# Altium integrated library ON Semi Schottky Diodes & Schottky Rectifiers.IntLib: 755 symbols (part 13 of 17)
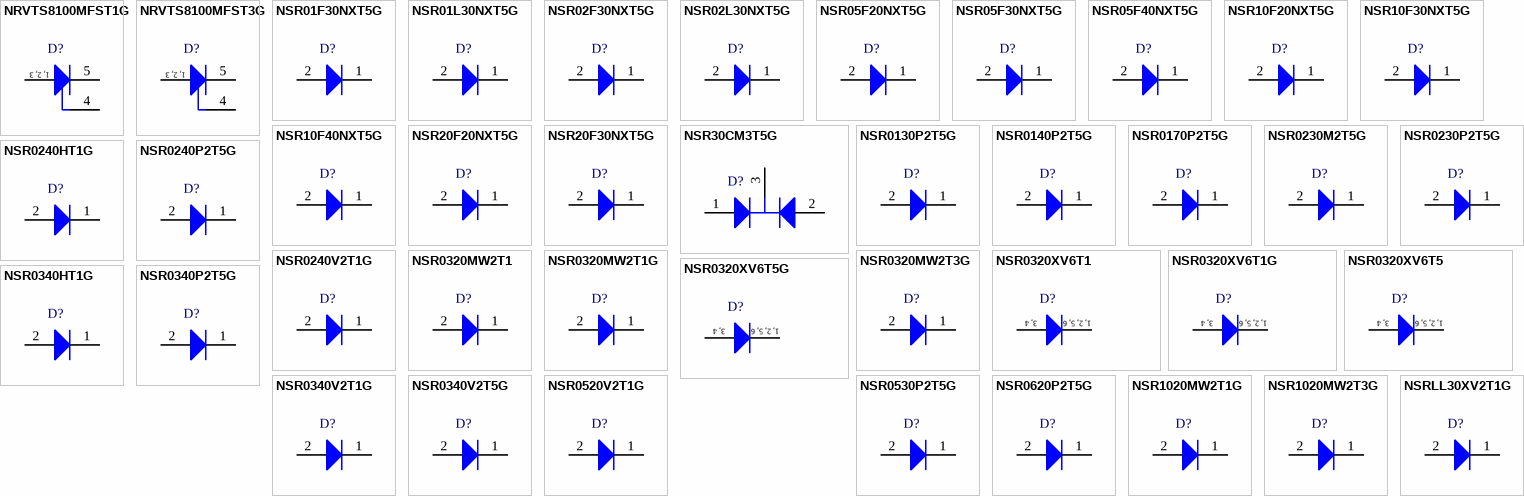
[diagram p31: symbols NRVTS8100MFST1G to NSRLL30XV2T1G]

## NSR30CM3T5G
designator D?
Dual Common Cathode Schottky Barrier Diodes, 3-Pin SOT-723, Pb-Free, Tape and Reel; Manufacturer: On Semiconductor; PartNumber: NSR30CM3T5G; IFSM Max (A): 0.6; trr Max (ns): 5; DatasheetVersion: Rev. 3; PackageVersion: Rev. C, 08/2006; PackageReference: SOT-723-3-631AA-01_C; PackageDescription: 3-Pin SOT223, Body 0.8 x 1.2 mm, Pitch 0.4 mm; Supplier 1: Digi-Key; Supplier Part Number 1: NSR30CM3T5GOSTR-ND; Supplier 2: Digi-Key; Supplier Part Number 2: NSR30CM3T5GOSCT-ND; Supplier 3: Digi-Key; Supplier Part Number 3: NSR30CM3T5GOSDKR-ND; Supplier 4: Farnell; Supplier Part Number 4: 1908089; Supplier 5: Newark; Supplier Part Number 5: 09R9613; Supplier 6: Mouser; Supplier Part Number 6: 863-NSR30CM3T5G; Configuration: Common Cathode; Packing: Tape and Reel; RoHS: TRUE; Mounting Technology: Surface Mount; ComponentLink1Description: Manufacturer URL; ComponentLink1URL: http://www.onsemi.com/; ComponentLink2Description: Datasheet; ComponentLink2URL: http://www.onsemi.cn/pub_link/Collateral/NSR30CM3T5G-D.PDF; ComponentLink3Description: Package Specification; ComponentLink3URL: http://www.onsemi.cn/pub_link/Collateral/BAT54M3-D.PDF
footprint ONSC-SOT-723-3-631AA-01_C_V (SOT23, 3-Leads, Body 1.25x0.85mm, Pitch 0.4mm)
pins: 1 A1, 2 A2, 3 K

## NSR0130P2T5G
designator D?
Schottky Barrier Diode, 2-Pin SOD-923, Pb-Free, Tape and Reel; Manufacturer: On Semiconductor; PartNumber: NSR0130P2T5G; Configuration: Single; IFSM Max (A): 1; DatasheetVersion: Rev. 1; PackageVersion: Rev. B, 04/2006; PackageReference: SOD-923-2-514AA-01_B; PackageDescription: 2-Pin SOD, Body 0.8 x 0.6 mm; Supplier 1: Digi-Key; Supplier Part Number 1: NSR0130P2T5GOSTR-ND; Supplier 2: Digi-Key; Supplier Part Number 2: NSR0130P2T5GOSCT-ND; Supplier 3: Digi-Key; Supplier Part Number 3: NSR0130P2T5GOSDKR-ND; Supplier 4: Farnell; Supplier Part Number 4: 1453608RL; Supplier 5: Newark; Supplier Part Number 5: 09R9612; Supplier 6: Mouser; Supplier Part Number 6: 863-NSR0130P2T5G; Packing: Tape and Reel; RoHS: TRUE; Mounting Technology: Surface Mount; ComponentLink1Description: Manufacturer URL; ComponentLink1URL: http://www.onsemi.com/; ComponentLink2Description: Datasheet; ComponentLink2URL: http://www.onsemi.cn/pub_link/Collateral/NSR0130P2-D.PDF; ComponentLink3Description: Package Specification; ComponentLink3URL: http://www.onsemi.cn/pub_link/Collateral/NSR0130P2-D.PDF
footprint ONSC-SOD-923-2-514AA-01_B_V (SOD, 2-Leads, Body 0.8x0.6mm)
pins: 1 K, 2 A

## NSR0140P2T5G
designator D?
Schottky Barrier Diode, 2-Pin SOD-923, Pb-Free, Tape and Reel; Manufacturer: On Semiconductor; PartNumber: NSR0140P2T5G; Configuration: Single; IFSM Max (A): 0.5; DatasheetVersion: Rev. O; PackageVersion: Rev. D, 03/2007; PackageReference: SOD-923-2-514AA-01_D; PackageDescription: 2-Pin SOD, Body 0.8 x 0.6 mm; Supplier 1: Digi-Key; Supplier Part Number 1: NSR0140P2T5GOSTR-ND; Supplier 2: Digi-Key; Supplier Part Number 2: NSR0140P2T5GOSCT-ND; Supplier 3: Digi-Key; Supplier Part Number 3: NSR0140P2T5GOSDKR-ND; Supplier 4: Farnell; Supplier Part Number 4: 1453611RL; Supplier 5: Farnell; Supplier Part Number 5: 1453611; Supplier 6: Farnell; Supplier Part Number 6: 2369153; Supplier 7: Newark; Supplier Part Number 7: 27M2677; Supplier 8: Newark; Supplier Part Number 8: 10N9704; Supplier 9: Mouser; Supplier Part Number 9: 863-NSR0140P2T5G; Packing: Tape and Reel; RoHS: TRUE; Mounting Technology: Surface Mount; ComponentLink1Description: Manufacturer URL; ComponentLink1URL: http://www.onsemi.com/; ComponentLink2Description: Datasheet; ComponentLink2URL: http://www.onsemi.cn/pub_link/Collateral/NSR0140P2-D.PDF; ComponentLink3Description: Package Specification; ComponentLink3URL: http://www.onsemi.cn/pub_link/Collateral/NSR0140P2-D.PDF
footprint ONSC-SOD-923-2-514AA-01_D_V (SOD, 2-Leads, Body 0.8x0.6mm)
pins: 1 K, 2 A

## NSR0170P2T5G
designator D?
Schottky Barrier Diode, 2-Pin SOD-923, Pb-Free, Tape and Reel; Manufacturer: On Semiconductor; PartNumber: NSR0170P2T5G; Configuration: Single; DatasheetVersion: Rev. 0; PackageVersion: Rev. B; PackageReference: SOD-923-2-514AB-01_B; PackageDescription: 2-Pin SOD, Body 0.8 x 0.6 mm; Supplier 1: Digi-Key; Supplier Part Number 1: NSR0170P2T5GOSTR-ND; Supplier 2: Digi-Key; Supplier Part Number 2: NSR0170P2T5GOSCT-ND; Supplier 3: Digi-Key; Supplier Part Number 3: NSR0170P2T5GOSDKR-ND; Supplier 4: Newark; Supplier Part Number 4: 01P5102; Supplier 5: Mouser; Supplier Part Number 5: 863-NSR0170P2T5G; Packing: Tape and Reel; RoHS: TRUE; Mounting Technology: Surface Mount; ComponentLink1Description: Manufacturer URL; ComponentLink1URL: http://www.onsemi.com/; ComponentLink2Description: Datasheet; ComponentLink2URL: http://www.onsemi.cn/pub_link/Collateral/NSR0170P2-D.PDF; ComponentLink3Description: Package Specification; ComponentLink3URL: http://www.onsemi.cn/pub_link/Collateral/NSR0170P2-D.PDF
footprint ONSC-SOD-923-2-514AB-01_B_V (SOD, 2-Leads, Body 0.8x0.6mm)
pins: 1 K, 2 A

## NSR0230M2T5G
designator D?
Schottky Barrier Diode, 2-Pin SOD-723, Pb-Free, Tape and Reel; Manufacturer: On Semiconductor; PartNumber: NSR0230M2T5G; Configuration: Single; IFSM Max (A): 1; DatasheetVersion: Rev. 3; PackageVersion: Rev. O, 03/2005; PackageReference: SOD-723-2-509AA-01; PackageDescription: 2-Pin SOD, Body 1 x 0.6 mm; Supplier 1: Digi-Key; Supplier Part Number 1: NSR0230M2T5G-ND; Supplier 2: Newark; Supplier Part Number 2: 02M9899; Supplier 3: Mouser; Supplier Part Number 3: 863-NSR0230M2T5G; Packing: Tape and Reel; RoHS: TRUE; Mounting Technology: Surface Mount; ComponentLink1Description: Manufacturer URL; ComponentLink1URL: http://www.onsemi.com/; ComponentLink2Description: Datasheet; ComponentLink2URL: http://www.onsemi.cn/pub_link/Collateral/NSR0230-D.PDF; ComponentLink3Description: Package Specification; ComponentLink3URL: http://www.onsemi.com/pub_link/Collateral/509AA.PDF
footprint ONSC-SOD-723-2-509AA-01_V (SOD, 2-Leads, Body 1x0.6mm)
pins: 1 K, 2 A

## NSR0230P2T5G
designator D?
Schottky Barrier Diode, 2-Pin SOD-923, Pb-Free, Tape and Reel; Manufacturer: On Semiconductor; PartNumber: NSR0230P2T5G; Configuration: Single; IFSM Max (A): 1; DatasheetVersion: Rev. 2; PackageVersion: Rev. E, 03/2011; PackageReference: SOD-923-2-514AA-01; PackageDescription: 2-Pin SOD, Body 0.8 x 0.6 mm; Supplier 1: Digi-Key; Supplier Part Number 1: NSR0230P2T5GOSTR-ND; Supplier 2: Digi-Key; Supplier Part Number 2: NSR0230P2T5GOSCT-ND; Supplier 3: Digi-Key; Supplier Part Number 3: NSR0230P2T5GOSDKR-ND; Supplier 4: Newark; Supplier Part Number 4: 10N9705; Supplier 5: Newark; Supplier Part Number 5: 27M2678; Supplier 6: Mouser; Supplier Part Number 6: 863-NSR0230P2T5G; Packing: Tape and Reel; RoHS: TRUE; Mounting Technology: Surface Mount; ComponentLink1Description: Manufacturer URL; ComponentLink1URL: http://www.onsemi.com/; ComponentLink2Description: Datasheet; ComponentLink2URL: http://www.onsemi.cn/pub_link/Collateral/NSR0230P2-D.PDF; ComponentLink3Description: Package Specification; ComponentLink3URL: http://www.onsemi.com/pub_link/Collateral/514AA.PDF
footprint ONSC-SOD-923-2-514AA-01_V (SOD, 2-Leads, Body 0.8x0.6mm)
pins: 1 K, 2 A

## NSR0240HT1G
designator D?
Schottky Barrier Diode, 2-Pin SOD-323, Pb-Free, Tape and Reel; Manufacturer: On Semiconductor; PartNumber: NSR0240HT1G; Configuration: Single; IFSM Max (A): 1; DatasheetVersion: Rev. 1; PackageVersion: Rev. H, 03/2007; PackageReference: SOD-323-2-477-02; PackageDescription: 2-Pin SOD, Body 1.7 x 1.25 mm; Supplier 1: Digi-Key; Supplier Part Number 1: NSR0240HT1GOSTR-ND; Supplier 2: Digi-Key; Supplier Part Number 2: NSR0240HT1GOSCT-ND; Supplier 3: Digi-Key; Supplier Part Number 3: NSR0240HT1GOSDKR-ND; Supplier 4: Farnell; Supplier Part Number 4: 2317681; Supplier 5: Farnell; Supplier Part Number 5: 1886883; Supplier 6: Newark; Supplier Part Number 6: 46P8322; Supplier 7: Newark; Supplier Part Number 7: 85W2837; Supplier 8: Mouser; Supplier Part Number 8: 863-NSR0240HT1G; Packing: Tape and Reel; RoHS: TRUE; Mounting Technology: Surface Mount; ComponentLink1Description: Manufacturer URL; ComponentLink1URL: http://www.onsemi.com/; ComponentLink2Description: Datasheet; ComponentLink2URL: http://www.onsemi.cn/pub_link/Collateral/NSR0240H-D.PDF; ComponentLink3Description: Package Specification; ComponentLink3URL: http://www.onsemi.com/pub_link/Collateral/477-02.PDF.1
footprint ONSC-SOD-323-2-477-02_V (SOD, 2-Leads, Body 1.7x1.25mm)
pins: 1 K, 2 A

## NSR0240P2T5G
designator D?
Schottky Barrier Diode, 2-Pin SOD-923, Pb-Free, Tape and Reel; Manufacturer: On Semiconductor; PartNumber: NSR0240P2T5G; Configuration: Single; IFSM Max (A): 2; DatasheetVersion: Rev. 2; PackageVersion: Rev. C, 03/2011; PackageReference: SOD-923-2-514AB-01; PackageDescription: 2-Pin SOD, Body 0.8 x 0.6 mm; Supplier 1: Digi-Key; Supplier Part Number 1: NSR0240P2T5GOSTR-ND; Supplier 2: Digi-Key; Supplier Part Number 2: NSR0240P2T5GOSCT-ND; Supplier 3: Digi-Key; Supplier Part Number 3: NSR0240P2T5GOSDKR-ND; Supplier 4: Farnell; Supplier Part Number 4: 2317445; Supplier 5: Newark; Supplier Part Number 5: 85W2838; Supplier 6: Newark; Supplier Part Number 6: 01P5103; Supplier 7: Mouser; Supplier Part Number 7: 863-NSR0240P2T5G; Packing: Tape and Reel; RoHS: TRUE; Mounting Technology: Surface Mount; ComponentLink1Description: Manufacturer URL; ComponentLink1URL: http://www.onsemi.com/; ComponentLink2Description: Datasheet; ComponentLink2URL: http://www.onsemi.cn/pub_link/Collateral/NSR0240P2-D.PDF; ComponentLink3Description: Package Specification; ComponentLink3URL: http://www.onsemi.com/pub_link/Collateral/514AB.PDF
footprint ONSC-SOD-923-2-514AB-01_V (SOD, 2-Leads, Body 0.8x0.6mm)
pins: 1 K, 2 A

## NSR0240V2T1G
designator D?
Schottky Barrier Diode, 2-Pin SOD-523, Pb-Free, Tape and Reel; Manufacturer: On Semiconductor; PartNumber: NSR0240V2T1G; Configuration: Single; IFSM Max (A): 2; DatasheetVersion: Rev. 2; PackageVersion: Rev. E, 09/2010; PackageReference: SOD-523-2-502-01; PackageDescription: 2-Pin SOD, Body 1.2 x 0.8 mm; Supplier 1: Digi-Key; Supplier Part Number 1: NSR0240V2T1GOSTR-ND; Supplier 2: Digi-Key; Supplier Part Number 2: NSR0240V2T1GOSCT-ND; Supplier 3: Digi-Key; Supplier Part Number 3: NSR0240V2T1GOSDKR-ND; Supplier 4: Farnell; Supplier Part Number 4: 2317403; Supplier 5: Newark; Supplier Part Number 5: 90W9286; Supplier 6: Newark; Supplier Part Number 6: 46P8323; Supplier 7: Newark; Supplier Part Number 7: 85W2839; Supplier 8: Mouser; Supplier Part Number 8: 863-NSR0240V2T1G; Packing: Tape and Reel; RoHS: TRUE; Mounting Technology: Surface Mount; ComponentLink1Description: Manufacturer URL; ComponentLink1URL: http://www.onsemi.com/; ComponentLink2Description: Datasheet; ComponentLink2URL: http://www.onsemi.cn/pub_link/Collateral/NSR0240V2T1-D.PDF; ComponentLink3Description: Package Specification; ComponentLink3URL: http://www.onsemi.com/pub_link/Collateral/502-01.PDF
footprint ONSC-SOD-523-2-502-01_V (SOD, 2-Leads, Body 1.2x0.8mm)
pins: 1 K, 2 A

## NSR0320MW2T1
designator D?
Schottky Barrier Diode, 2-Pin SOD-323, Tape and Reel; Manufacturer: On Semiconductor; PartNumber: NSR0320MW2T1; Note: 0; Configuration: Single; IFSM Max (A): 5; DatasheetVersion: Rev. 4; PackageVersion: Rev. H, 03/2007; PackageReference: SOD-323-2-477-02; PackageDescription: 2-Pin SOD, Body 1.7 x 1.25 mm; Packing: Tape and Reel; RoHS: FALSE; Mounting Technology: Surface Mount; ComponentLink1Description: Manufacturer URL; ComponentLink1URL: http://www.onsemi.com/; ComponentLink2Description: Datasheet; ComponentLink2URL: http://www.onsemi.cn/pub_link/Collateral/NSR0320MW2T1-D.PDF; ComponentLink3Description: Package Specification; ComponentLink3URL: http://www.onsemi.com/pub_link/Collateral/477-02.PDF.1
footprint ONSC-SOD-323-2-477-02_V (SOD, 2-Leads, Body 1.7x1.25mm)
pins: 1 K, 2 A

## NSR0320MW2T1G
designator D?
Schottky Barrier Diode, 2-Pin SOD-323, Pb-Free, Tape and Reel; Manufacturer: On Semiconductor; PartNumber: NSR0320MW2T1G; Configuration: Single; IFSM Max (A): 5; DatasheetVersion: Rev. 4; PackageVersion: Rev. H, 03/2007; PackageReference: SOD-323-2-477-02; PackageDescription: 2-Pin SOD, Body 1.7 x 1.25 mm; Supplier 1: Digi-Key; Supplier Part Number 1: NSR0320MW2T1GOSTR-ND; Supplier 2: Digi-Key; Supplier Part Number 2: NSR0320MW2T1GOSCT-ND; Supplier 3: Digi-Key; Supplier Part Number 3: NSR0320MW2T1GOSDKR-ND; Supplier 4: Farnell; Supplier Part Number 4: 2317652; Supplier 5: Farnell; Supplier Part Number 5: 2317416; Supplier 6: Newark; Supplier Part Number 6: 10N9706; Supplier 7: Newark; Supplier Part Number 7: 71J7032; Supplier 8: Mouser; Supplier Part Number 8: 863-NSR0320MW2T1G; Packing: Tape and Reel; RoHS: TRUE; Mounting Technology: Surface Mount; ComponentLink1Description: Manufacturer URL; ComponentLink1URL: http://www.onsemi.com/; ComponentLink2Description: Datasheet; ComponentLink2URL: http://www.onsemi.cn/pub_link/Collateral/NSR0320MW2T1-D.PDF; ComponentLink3Description: Package Specification; ComponentLink3URL: http://www.onsemi.com/pub_link/Collateral/477-02.PDF.1
footprint ONSC-SOD-323-2-477-02_V (SOD, 2-Leads, Body 1.7x1.25mm)
pins: 1 K, 2 A

## NSR0320MW2T3G
designator D?
Schottky Barrier Diode, 2-Pin SOD-323, Pb-Free, Tape and Reel; Manufacturer: On Semiconductor; PartNumber: NSR0320MW2T3G; Configuration: Single; IFSM Max (A): 5; DatasheetVersion: Rev. 4; PackageVersion: Rev. H, 03/2007; PackageReference: SOD-323-2-477-02; PackageDescription: 2-Pin SOD, Body 1.7 x 1.25 mm; Supplier 1: Digi-Key; Supplier Part Number 1: NSR0320MW2T3GOSTR-ND; Supplier 2: Digi-Key; Supplier Part Number 2: NSR0320MW2T3GOSCT-ND; Supplier 3: Newark; Supplier Part Number 3: 98H0943; Supplier 4: Mouser; Supplier Part Number 4: 863-NSR0320MW2T3G; Packing: Tape and Reel; RoHS: TRUE; Mounting Technology: Surface Mount; ComponentLink1Description: Manufacturer URL; ComponentLink1URL: http://www.onsemi.com/; ComponentLink2Description: Datasheet; ComponentLink2URL: http://www.onsemi.cn/pub_link/Collateral/NSR0320MW2T1-D.PDF; ComponentLink3Description: Package Specification; ComponentLink3URL: http://www.onsemi.com/pub_link/Collateral/477-02.PDF.1
footprint ONSC-SOD-323-2-477-02_V (SOD, 2-Leads, Body 1.7x1.25mm)
pins: 1 K, 2 A

## NSR0320XV6T1
designator D?
Schottky Barrier Diode, 6-Pin SOT-563, Pb-Free, Tape and Reel; Manufacturer: On Semiconductor; PartNumber: NSR0320XV6T1; Configuration: Single; IFSM Max (A): 7.5; DatasheetVersion: Rev. 6; PackageVersion: Rev. F, 04/2005; PackageReference: SOT-563-6-463A-01; PackageDescription: 6-Pin Small Outline Transistor, Body 1.6 x 1.2 mm, Pitch 0.5 mm; Supplier 1: Digi-Key; Supplier Part Number 1: NSR0320XV6T1OSTR-ND; Supplier 2: Digi-Key; Supplier Part Number 2: NSR0320XV6T1OSCT-ND; Supplier 3: Mouser; Supplier Part Number 3: 863-NSR0320XV6T1; Packing: Tape and Reel; RoHS: TRUE; Mounting Technology: Surface Mount; ComponentLink1Description: Manufacturer URL; ComponentLink1URL: http://www.onsemi.com/; ComponentLink2Description: Datasheet; ComponentLink2URL: http://www.onsemi.cn/pub_link/Collateral/NSR0320XV6T1-D.PDF; ComponentLink3Description: Package Specification; ComponentLink3URL: http://www.onsemi.cn/pub_link/Collateral/463A-01.PDF
footprint ONSC-SOT-563-6-463A-01_V (SOT23, 6-Leads, Body 1.6x1.2mm, Pitch 0.5mm)
pins: 1 K, 2 K, 3 A, 4 A, 5 K, 6 K
text: 3, 4; 1, 2, 5, 6

## NSR0320XV6T1G
designator D?
Schottky Barrier Diode, 6-Pin SOT-563, Pb-Free, Tape and Reel; Manufacturer: On Semiconductor; PartNumber: NSR0320XV6T1G; Configuration: Single; IFSM Max (A): 7.5; DatasheetVersion: Rev. 6; PackageVersion: Rev. F, 04/2005; PackageReference: SOT-563-6-463A-01; PackageDescription: 6-Pin Small Outline Transistor, Body 1.6 x 1.2 mm, Pitch 0.5 mm; Supplier 1: Digi-Key; Supplier Part Number 1: NSR0320XV6T1GOSTR-ND; Supplier 2: Digi-Key; Supplier Part Number 2: NSR0320XV6T1GOSCT-ND; Supplier 3: Digi-Key; Supplier Part Number 3: NSR0320XV6T1GOSDKR-ND; Supplier 4: Newark; Supplier Part Number 4: 42K2368; Supplier 5: Mouser; Supplier Part Number 5: 863-NSR0320XV6T1G; Packing: Tape and Reel; RoHS: TRUE; Mounting Technology: Surface Mount; ComponentLink1Description: Manufacturer URL; ComponentLink1URL: http://www.onsemi.com/; ComponentLink2Description: Datasheet; ComponentLink2URL: http://www.onsemi.cn/pub_link/Collateral/NSR0320XV6T1-D.PDF; ComponentLink3Description: Package Specification; ComponentLink3URL: http://www.onsemi.cn/pub_link/Collateral/463A-01.PDF
footprint ONSC-SOT-563-6-463A-01_V (SOT23, 6-Leads, Body 1.6x1.2mm, Pitch 0.5mm)
pins: 1 K, 2 K, 3 A, 4 A, 5 K, 6 K
text: 3, 4; 1, 2, 5, 6

## NSR0320XV6T5
designator D?
Schottky Barrier Diode, 6-Pin SOT-563, Pb-Free, Tape and Reel; Manufacturer: On Semiconductor; PartNumber: NSR0320XV6T5; Configuration: Single; IFSM Max (A): 7.5; DatasheetVersion: Rev. 6; PackageVersion: Rev. F, 04/2005; PackageReference: SOT-563-6-463A-01; PackageDescription: 6-Pin Small Outline Transistor, Body 1.6 x 1.2 mm, Pitch 0.5 mm; Supplier 1: Mouser; Supplier Part Number 1: 863-NSR0320XV6T5; Packing: Tape and Reel; RoHS: TRUE; Mounting Technology: Surface Mount; ComponentLink1Description: Manufacturer URL; ComponentLink1URL: http://www.onsemi.com/; ComponentLink2Description: Datasheet; ComponentLink2URL: http://www.onsemi.cn/pub_link/Collateral/NSR0320XV6T1-D.PDF; ComponentLink3Description: Package Specification; ComponentLink3URL: http://www.onsemi.cn/pub_link/Collateral/463A-01.PDF
footprint ONSC-SOT-563-6-463A-01_V (SOT23, 6-Leads, Body 1.6x1.2mm, Pitch 0.5mm)
pins: 1 K, 2 K, 3 A, 4 A, 5 K, 6 K
text: 3, 4; 1, 2, 5, 6

## NSR0320XV6T5G
designator D?
Schottky Barrier Diode, 6-Pin SOT-563, Pb-Free, Tape and Reel; Manufacturer: On Semiconductor; PartNumber: NSR0320XV6T5G; Configuration: Single; IFSM Max (A): 7.5; DatasheetVersion: Rev. 6; PackageVersion: Rev. F, 04/2005; PackageReference: SOT-563-6-463A-01; PackageDescription: 6-Pin Small Outline Transistor, Body 1.6 x 1.2 mm, Pitch 0.5 mm; Supplier 1: Digi-Key; Supplier Part Number 1: NSR0320XV6T5GOS-ND; Supplier 2: Newark; Supplier Part Number 2: 42K2369; Supplier 3: Mouser; Supplier Part Number 3: 863-NSR0320XV6T5G; Packing: Tape and Reel; RoHS: TRUE; Mounting Technology: Surface Mount; ComponentLink1Description: Manufacturer URL; ComponentLink1URL: http://www.onsemi.com/; ComponentLink2Description: Datasheet; ComponentLink2URL: http://www.onsemi.cn/pub_link/Collateral/NSR0320XV6T1-D.PDF; ComponentLink3Description: Package Specification; ComponentLink3URL: http://www.onsemi.cn/pub_link/Collateral/463A-01.PDF
footprint ONSC-SOT-563-6-463A-01_V (SOT23, 6-Leads, Body 1.6x1.2mm, Pitch 0.5mm)
pins: 1 K, 2 K, 3 A, 4 A, 5 K, 6 K
text: 3, 4; 1, 2, 5, 6

## NSR0340HT1G
designator D?
Schottky Barrier Diode, 2-Pin SOD-323, Pb-Free, Tape and Reel; Manufacturer: On Semiconductor; PartNumber: NSR0340HT1G; Configuration: Single; IFSM Max (A): 1; DatasheetVersion: Rev. 1; PackageVersion: Rev. H, 03/2007; PackageReference: SOD-323-2-477-02; PackageDescription: 2-Pin SOD, Body 1.7 x 1.25 mm; Supplier 1: Digi-Key; Supplier Part Number 1: NSR0340HT1GOSTR-ND; Supplier 2: Digi-Key; Supplier Part Number 2: NSR0340HT1GOSCT-ND; Supplier 3: Digi-Key; Supplier Part Number 3: NSR0340HT1GOSDKR-ND; Supplier 4: Farnell; Supplier Part Number 4: 2317404; Supplier 5: Newark; Supplier Part Number 5: 90W9287; Supplier 6: Newark; Supplier Part Number 6: 46P8324; Supplier 7: Newark; Supplier Part Number 7: 85W2840; Supplier 8: Mouser; Supplier Part Number 8: 863-NSR0340HT1G; Packing: Tape and Reel; RoHS: TRUE; Mounting Technology: Surface Mount; ComponentLink1Description: Manufacturer URL; ComponentLink1URL: http://www.onsemi.com/; ComponentLink2Description: Datasheet; ComponentLink2URL: http://www.onsemi.cn/pub_link/Collateral/NSR0340H-D.PDF; ComponentLink3Description: Package Specification; ComponentLink3URL: http://www.onsemi.com/pub_link/Collateral/477-02.PDF.1
footprint ONSC-SOD-323-2-477-02_V (SOD, 2-Leads, Body 1.7x1.25mm)
pins: 1 K, 2 A

## NSR0340P2T5G
designator D?
Schottky Barrier Diode, 2-Pin SOD-923, Pb-Free, Tape and Reel; Manufacturer: On Semiconductor; PartNumber: NSR0340P2T5G; Configuration: Single; IFSM Max (A): 1; DatasheetVersion: Rev. 0; PackageVersion: Rev. B; PackageReference: SOD-923-2-514AB-01_B; PackageDescription: 2-Pin SOD, Body 0.8 x 0.6 mm; Supplier 1: Digi-Key; Supplier Part Number 1: NSR0340P2T5GOSTR-ND; Supplier 2: Digi-Key; Supplier Part Number 2: NSR0340P2T5GOSCT-ND; Supplier 3: Digi-Key; Supplier Part Number 3: NSR0340P2T5GOSDKR-ND; Supplier 4: Farnell; Supplier Part Number 4: 2317401; Supplier 5: Newark; Supplier Part Number 5: 95W3520; Supplier 6: Newark; Supplier Part Number 6: 13P5592; Supplier 7: Mouser; Supplier Part Number 7: 863-NSR0340P2T5G; Packing: Tape and Reel; RoHS: TRUE; Mounting Technology: Surface Mount; ComponentLink1Description: Manufacturer URL; ComponentLink1URL: http://www.onsemi.com/; ComponentLink2Description: Datasheet; ComponentLink2URL: http://www.onsemi.cn/pub_link/Collateral/NSR0340P2-D.PDF; ComponentLink3Description: Package Specification; ComponentLink3URL: http://www.onsemi.cn/pub_link/Collateral/NSR0170P2-D.PDF
footprint ONSC-SOD-923-2-514AB-01_B_V (SOD, 2-Leads, Body 0.8x0.6mm)
pins: 1 K, 2 A

## NSR0340V2T1G
designator D?
Schottky Barrier Diode, 2-Pin SOD-523, Pb-Free, Tape and Reel; Manufacturer: On Semiconductor; PartNumber: NSR0340V2T1G; Configuration: Single; IFSM Max (A): 1; DatasheetVersion: Rev. 1; PackageVersion: Rev. E, 09/2010; PackageReference: SOD-523-2-502-01; PackageDescription: 2-Pin SOD, Body 1.2 x 0.8 mm; Supplier 1: Digi-Key; Supplier Part Number 1: NSR0340V2T1GOSTR-ND; Supplier 2: Digi-Key; Supplier Part Number 2: NSR0340V2T1GOSCT-ND; Supplier 3: Digi-Key; Supplier Part Number 3: NSR0340V2T1GOSDKR-ND; Supplier 4: Farnell; Supplier Part Number 4: 1886884; Supplier 5: Newark; Supplier Part Number 5: 46P8325; Supplier 6: Mouser; Supplier Part Number 6: 863-NSR0340V2T1G; Packing: Tape and Reel; RoHS: TRUE; Mounting Technology: Surface Mount; ComponentLink1Description: Manufacturer URL; ComponentLink1URL: http://www.onsemi.com/; ComponentLink2Description: Datasheet; ComponentLink2URL: http://www.onsemi.cn/pub_link/Collateral/NSR0340V2T1-D.PDF; ComponentLink3Description: Package Specification; ComponentLink3URL: http://www.onsemi.com/pub_link/Collateral/502-01.PDF
footprint ONSC-SOD-523-2-502-01_V (SOD, 2-Leads, Body 1.2x0.8mm)
pins: 1 K, 2 A

## NSR0340V2T5G
designator D?
Schottky Barrier Diode, 2-Pin SOD-523, Pb-Free, Tape and Reel; Manufacturer: On Semiconductor; PartNumber: NSR0340V2T5G; Configuration: Single; IFSM Max (A): 1; DatasheetVersion: Rev. 1; PackageVersion: Rev. E, 09/2010; PackageReference: SOD-523-2-502-01; PackageDescription: 2-Pin SOD, Body 1.2 x 0.8 mm; Supplier 1: Newark; Supplier Part Number 1: 97W6364; Supplier 2: Mouser; Supplier Part Number 2: 863-NSR0340V2T5G; Packing: Tape and Reel; RoHS: TRUE; Mounting Technology: Surface Mount; ComponentLink1Description: Manufacturer URL; ComponentLink1URL: http://www.onsemi.com/; ComponentLink2Description: Datasheet; ComponentLink2URL: http://www.onsemi.cn/pub_link/Collateral/NSR0340V2T1-D.PDF; ComponentLink3Description: Package Specification; ComponentLink3URL: http://www.onsemi.com/pub_link/Collateral/502-01.PDF
footprint ONSC-SOD-523-2-502-01_V (SOD, 2-Leads, Body 1.2x0.8mm)
pins: 1 K, 2 A

## NSR0520V2T1G
designator D?
Schottky Barrier Diode, 2-Pin SOD-523, Pb-Free, Tape and Reel; Manufacturer: On Semiconductor; PartNumber: NSR0520V2T1G; Configuration: Single; IFSM Max (A): 2; DatasheetVersion: Rev. 3; PackageVersion: Rev. E, 09/2010; PackageReference: SOD-523-2-502-01; PackageDescription: 2-Pin SOD, Body 1.2 x 0.8 mm; Supplier 1: Digi-Key; Supplier Part Number 1: NSR0520V2T1GOSTR-ND; Supplier 2: Digi-Key; Supplier Part Number 2: NSR0520V2T1GOSCT-ND; Supplier 3: Digi-Key; Supplier Part Number 3: NSR0520V2T1GOSDKR-ND; Supplier 4: Farnell; Supplier Part Number 4: 1887200; Supplier 5: Newark; Supplier Part Number 5: 73P9690; Supplier 6: Mouser; Supplier Part Number 6: 863-NSR0520V2T1G; Packing: Tape and Reel; RoHS: TRUE; Mounting Technology: Surface Mount; ComponentLink1Description: Manufacturer URL; ComponentLink1URL: http://www.onsemi.com/; ComponentLink2Description: Datasheet; ComponentLink2URL: http://www.onsemi.cn/pub_link/Collateral/NSR0520V2T1-D.PDF; ComponentLink3Description: Package Specification; ComponentLink3URL: http://www.onsemi.com/pub_link/Collateral/502-01.PDF
footprint ONSC-SOD-523-2-502-01_V (SOD, 2-Leads, Body 1.2x0.8mm)
pins: 1 K, 2 A

## NSR0530P2T5G
designator D?
Schottky Barrier Diode, 2-Pin SOD-923, Pb-Free, Tape and Reel; Manufacturer: On Semiconductor; PartNumber: NSR0530P2T5G; Configuration: Single; DatasheetVersion: Rev. 0; PackageVersion: Rev. B; PackageReference: SOD-923-2-514AB-01_B; PackageDescription: 2-Pin SOD, Body 0.8 x 0.6 mm; Supplier 1: Digi-Key; Supplier Part Number 1: NSR0530P2T5GOSTR-ND; Supplier 2: Digi-Key; Supplier Part Number 2: NSR0530P2T5GOSCT-ND; Supplier 3: Digi-Key; Supplier Part Number 3: NSR0530P2T5GOSDKR-ND; Supplier 4: Farnell; Supplier Part Number 4: 1887201; Supplier 5: Farnell; Supplier Part Number 5: 2368268; Supplier 6: Newark; Supplier Part Number 6: 01P5104; Supplier 7: Newark; Supplier Part Number 7: 73P9691; Supplier 8: Mouser; Supplier Part Number 8: 863-NSR0530P2T5G; Packing: Tape and Reel; RoHS: TRUE; Mounting Technology: Surface Mount; ComponentLink1Description: Manufacturer URL; ComponentLink1URL: http://www.onsemi.com/; ComponentLink2Description: Datasheet; ComponentLink2URL: http://www.onsemi.cn/pub_link/Collateral/NSR0530P2-D.PDF; ComponentLink3Description: Package Specification; ComponentLink3URL: http://www.onsemi.cn/pub_link/Collateral/NSR0170P2-D.PDF
footprint ONSC-SOD-923-2-514AB-01_B_V (SOD, 2-Leads, Body 0.8x0.6mm)
pins: 1 K, 2 A

## NSR0620P2T5G
designator D?
Schottky Barrier Diode, 2-Pin SOD-923, Pb-Free, Tape and Reel; Manufacturer: On Semiconductor; PartNumber: NSR0620P2T5G; Configuration: Single; IFSM Max (A): 1; DatasheetVersion: Rev. 2; PackageVersion: Rev. C, 03/2011; PackageReference: SOD-923-2-514AB-01; PackageDescription: 2-Pin SOD, Body 0.8 x 0.6 mm; Supplier 1: Digi-Key; Supplier Part Number 1: NSR0620P2T5GOSTR-ND; Supplier 2: Digi-Key; Supplier Part Number 2: NSR0620P2T5GOSCT-ND; Supplier 3: Digi-Key; Supplier Part Number 3: NSR0620P2T5GOSDKR-ND; Supplier 4: Farnell; Supplier Part Number 4: 2317440; Supplier 5: Farnell; Supplier Part Number 5: 2317717; Supplier 6: Newark; Supplier Part Number 6: 85W2841; Supplier 7: Newark; Supplier Part Number 7: 13P5594; Supplier 8: Mouser; Supplier Part Number 8: 863-NSR0620P2T5G; Packing: Tape and Reel; RoHS: TRUE; Mounting Technology: Surface Mount; ComponentLink1Description: Manufacturer URL; ComponentLink1URL: http://www.onsemi.com/; ComponentLink2Description: Datasheet; ComponentLink2URL: http://www.onsemi.cn/pub_link/Collateral/NSR0620P2-D.PDF; ComponentLink3Description: Package Specification; ComponentLink3URL: http://www.onsemi.com/pub_link/Collateral/514AB.PDF
footprint ONSC-SOD-923-2-514AB-01_V (SOD, 2-Leads, Body 0.8x0.6mm)
pins: 1 K, 2 A

## NSR1020MW2T1G
designator D?
Schottky Barrier Diode, 2-Pin SOD-323, Pb-Free, Tape and Reel; Manufacturer: On Semiconductor; PartNumber: NSR1020MW2T1G; Configuration: Single; IFSM Max (A): 5; DatasheetVersion: Rev. 1; PackageVersion: Rev. H, 03/2007; PackageReference: SOD-323-2-477-02; PackageDescription: 2-Pin SOD, Body 1.7 x 1.25 mm; Supplier 1: Digi-Key; Supplier Part Number 1: NSR1020MW2T1GOSTR-ND; Supplier 2: Digi-Key; Supplier Part Number 2: NSR1020MW2T1GOSCT-ND; Supplier 3: Digi-Key; Supplier Part Number 3: NSR1020MW2T1GOSDKR-ND; Supplier 4: Farnell; Supplier Part Number 4: 1431027; Supplier 5: Farnell; Supplier Part Number 5: 1431027RL; Supplier 6: Farnell; Supplier Part Number 6: 2368814; Supplier 7: Newark; Supplier Part Number 7: 16M4518; Supplier 8: Newark; Supplier Part Number 8: 10N9707; Supplier 9: Mouser; Supplier Part Number 9: 863-NSR1020MW2T1G; Packing: Tape and Reel; RoHS: TRUE; Mounting Technology: Surface Mount; ComponentLink1Description: Manufacturer URL; ComponentLink1URL: http://www.onsemi.com/; ComponentLink2Description: Datasheet; ComponentLink2URL: http://www.onsemi.cn/pub_link/Collateral/NSR1020MW2T1-D.PDF; ComponentLink3Description: Package Specification; ComponentLink3URL: http://www.onsemi.com/pub_link/Collateral/477-02.PDF.1
footprint ONSC-SOD-323-2-477-02_V (SOD, 2-Leads, Body 1.7x1.25mm)
pins: 1 K, 2 A

## NSR1020MW2T3G
designator D?
Schottky Barrier Diode, 2-Pin SOD-323, Pb-Free, Tape and Reel; Manufacturer: On Semiconductor; PartNumber: NSR1020MW2T3G; Configuration: Single; IFSM Max (A): 5; DatasheetVersion: Rev. 1; PackageVersion: Rev. H, 03/2007; PackageReference: SOD-323-2-477-02; PackageDescription: 2-Pin SOD, Body 1.7 x 1.25 mm; Supplier 1: Digi-Key; Supplier Part Number 1: NSR1020MW2T3GOSTR-ND; Supplier 2: Digi-Key; Supplier Part Number 2: NSR1020MW2T3GOSCT-ND; Supplier 3: Digi-Key; Supplier Part Number 3: NSR1020MW2T3GOSDKR-ND; Supplier 4: Newark; Supplier Part Number 4: 16M4519; Supplier 5: Mouser; Supplier Part Number 5: 863-NSR1020MW2T3G; Packing: Tape and Reel; RoHS: TRUE; Mounting Technology: Surface Mount; ComponentLink1Description: Manufacturer URL; ComponentLink1URL: http://www.onsemi.com/; ComponentLink2Description: Datasheet; ComponentLink2URL: http://www.onsemi.cn/pub_link/Collateral/NSR1020MW2T1-D.PDF; ComponentLink3Description: Package Specification; ComponentLink3URL: http://www.onsemi.com/pub_link/Collateral/477-02.PDF.1
footprint ONSC-SOD-323-2-477-02_V (SOD, 2-Leads, Body 1.7x1.25mm)
pins: 1 K, 2 A

## NSRLL30XV2T1G
designator D?
Schottky Barrier Diode, 2-Pin SOD-523, Pb-Free, Tape and Reel; Manufacturer: On Semiconductor; PartNumber: NSRLL30XV2T1G; Configuration: Single; DatasheetVersion: Rev. 1; PackageVersion: Rev. E, 09/2010; PackageReference: SOD-523-2-502-01; PackageDescription: 2-Pin SOD, Body 1.2 x 0.8 mm; Supplier 1: Digi-Key; Supplier Part Number 1: NSRLL30XV2T1G-ND; Supplier 2: Newark; Supplier Part Number 2: 16M4516; Supplier 3: Mouser; Supplier Part Number 3: 863-NSRLL30XV2T1G; Packing: Tape and Reel; RoHS: TRUE; Mounting Technology: Surface Mount; ComponentLink1Description: Manufacturer URL; ComponentLink1URL: http://www.onsemi.com/; ComponentLink2Description: Datasheet; ComponentLink2URL: http://www.onsemi.cn/pub_link/Collateral/NSRLL30XV2-D.PDF; ComponentLink3Description: Package Specification; ComponentLink3URL: http://www.onsemi.com/pub_link/Collateral/502-01.PDF
footprint ONSC-SOD-523-2-502-01_V (SOD, 2-Leads, Body 1.2x0.8mm)
pins: 1 K, 2 A

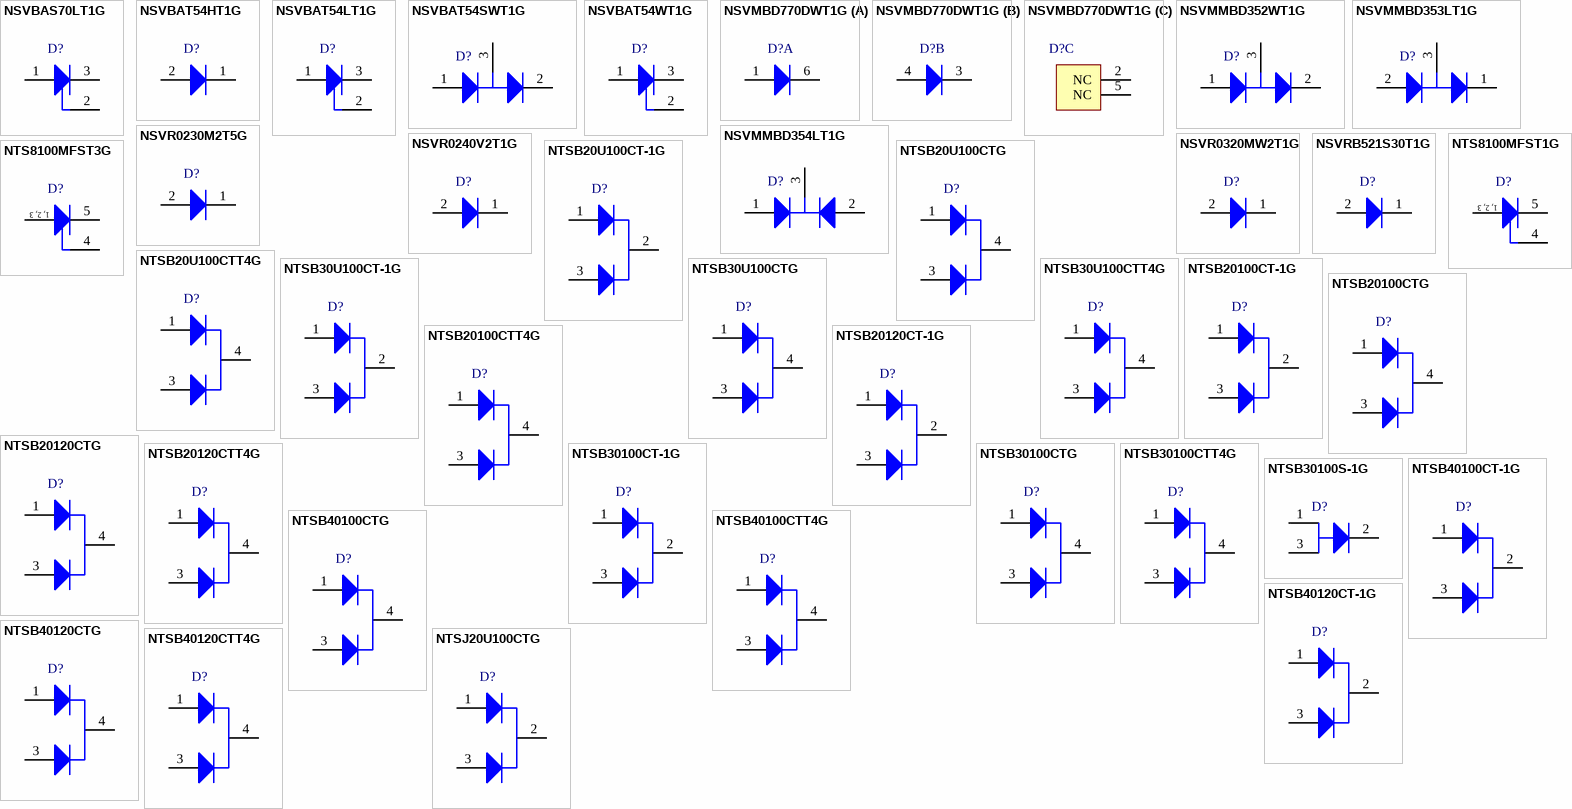
[diagram p15: symbols NSVBAS70LT1G to NTSJ20U100CTG]

## NSVBAS70LT1G
designator D?
Schottky Barrier Diode, 3-Pin SOT-23, Pb-Free, Tape and Reel; Manufacturer: On Semiconductor; PartNumber: NSVBAS70LT1G; Configuration: Single; IFSM Max (A): 0.1; DatasheetVersion: Rev. 8; PackageVersion: Rev. AP, 11/2009; PackageReference: SOT-23-3-318-08; PackageDescription: 3-Pin Small Outline Transistor, Body 2.92 x 1.3 mm, Pitch 0.95 mm; Supplier 1: Digi-Key; Supplier Part Number 1: NSVBAS70LT1G-ND; Supplier 2: Mouser; Supplier Part Number 2: 863-NSVBAS70LT1G; Packing: Tape and Reel; RoHS: TRUE; Mounting Technology: Surface Mount; ComponentLink1Description: Manufacturer URL; ComponentLink1URL: http://www.onsemi.com/; ComponentLink2Description: Datasheet; ComponentLink2URL: http://www.onsemi.cn/pub_link/Collateral/BAS70LT1-D.PDF; ComponentLink3Description: Package Specification; ComponentLink3URL: http://www.onsemi.cn/pub_link/Collateral/318-08.PDF
footprint ONSC-SOT-23-3-318-08_V (SOT23, 3-Leads, Body 2.92x1.3mm, Pitch 0.95mm)
pins: 1 A, 2 NC, 3 K

## NSVBAT54HT1G
designator D?
Schottky Barrier Diode, 2-Pin SOD-323, Pb-Free, Tape and Reel; Manufacturer: On Semiconductor; PartNumber: NSVBAT54HT1G; Configuration: Single; IFSM Max (A): 0.6; trr Max (ns): 5; DatasheetVersion: Rev. 6; PackageVersion: Rev. H, 03/2007; PackageReference: SOD-323-2-477-02; PackageDescription: 2-Pin SOD, Body 1.7 x 1.25 mm; Supplier 1: Digi-Key; Supplier Part Number 1: NSVBAT54HT1G-ND; Supplier 2: Newark; Supplier Part Number 2: 76T6695; Supplier 3: Mouser; Supplier Part Number 3: 863-NSVBAT54HT1G; Packing: Tape and Reel; RoHS: TRUE; Mounting Technology: Surface Mount; ComponentLink1Description: Manufacturer URL; ComponentLink1URL: http://www.onsemi.com/; ComponentLink2Description: Datasheet; ComponentLink2URL: http://www.onsemi.cn/pub_link/Collateral/BAT54HT1-D.PDF; ComponentLink3Description: Package Specification; ComponentLink3URL: http://www.onsemi.com/pub_link/Collateral/477-02.PDF.1
footprint ONSC-SOD-323-2-477-02_V (SOD, 2-Leads, Body 1.7x1.25mm)
pins: 1 K, 2 A

## NSVBAT54LT1G
designator D?
Schottky Barrier Diode, 3-Pin SOT-23, Pb-Free, Tape and Reel; Manufacturer: On Semiconductor; PartNumber: NSVBAT54LT1G; Configuration: Single; IFSM Max (A): 0.6; trr Max (ns): 5; DatasheetVersion: Rev. 12; PackageVersion: Rev. AP, 11/2009; PackageReference: SOT-23-3-318-08; PackageDescription: 3-Pin Small Outline Transistor, Body 2.92 x 1.3 mm, Pitch 0.95 mm; Supplier 1: Digi-Key; Supplier Part Number 1: NSVBAT54LT1G-ND; Supplier 2: Mouser; Supplier Part Number 2: 863-NSVBAT54LT1G; Packing: Tape and Reel; RoHS: TRUE; Mounting Technology: Surface Mount; ComponentLink1Description: Manufacturer URL; ComponentLink1URL: http://www.onsemi.com/; ComponentLink2Description: Datasheet; ComponentLink2URL: http://www.onsemi.cn/pub_link/Collateral/BAT54LT1-D.PDF; ComponentLink3Description: Package Specification; ComponentLink3URL: http://www.onsemi.cn/pub_link/Collateral/318-08.PDF
footprint ONSC-SOT-23-3-318-08_V (SOT23, 3-Leads, Body 2.92x1.3mm, Pitch 0.95mm)
pins: 1 A, 2 NC, 3 K

## NSVBAT54SWT1G
designator D?
Dual Series Schottky Barrier Diodes, 3-Pin SOT-323, Pb-Free, Tape and Reel; Manufacturer: On Semiconductor; PartNumber: NSVBAT54SWT1G; IFSM Max (A): 0.6; trr Max (ns): 5; DatasheetVersion: Rev. 10; PackageVersion: Rev. N, 11/2008; PackageReference: SOT-323-3-419-04; PackageDescription: 3-Pin Small Outline Transistor, Body 2 x 1.25 mm, Pitch 0.65 mm; Supplier 1: Digi-Key; Supplier Part Number 1: NSVBAT54SWT1G-ND; Supplier 2: Mouser; Supplier Part Number 2: 863-NSVBAT54SWT1G; Configuration: Dual; Packing: Tape and Reel; RoHS: TRUE; Mounting Technology: Surface Mount; ComponentLink1Description: Manufacturer URL; ComponentLink1URL: http://www.onsemi.com/; ComponentLink2Description: Datasheet; ComponentLink2URL: http://www.onsemi.cn/pub_link/Collateral/BAT54SWT1-D.PDF; ComponentLink3Description: Package Specification; ComponentLink3URL: http://www.onsemi.com/pub_link/Collateral/419-04.PDF
footprint ONSC-SOT-323-3-419-04_V (SOT23, 3-Leads, Body 2x1.25mm, Pitch 0.65mm)
pins: 1 A, 2 K, 3 K/A

## NSVBAT54WT1G
designator D?
Schottky Barrier Diode, 3-Pin SOT-323, Pb-Free, Tape and Reel; Manufacturer: On Semiconductor; PartNumber: NSVBAT54WT1G; Configuration: Single; IFSM Max (A): 0.6; trr Max (ns): 5; DatasheetVersion: Rev. 10; PackageVersion: Rev. N, 11/2008; PackageReference: SOT-323-3-419-04; PackageDescription: 3-Pin Small Outline Transistor, Body 2 x 1.25 mm, Pitch 0.65 mm; Supplier 1: Digi-Key; Supplier Part Number 1: NSVBAT54WT1G-ND; Supplier 2: Newark; Supplier Part Number 2: 76T6698; Supplier 3: Mouser; Supplier Part Number 3: 863-NSVBAT54WT1G; Packing: Tape and Reel; RoHS: TRUE; Mounting Technology: Surface Mount; ComponentLink1Description: Manufacturer URL; ComponentLink1URL: http://www.onsemi.com/; ComponentLink2Description: Datasheet; ComponentLink2URL: http://www.onsemi.cn/pub_link/Collateral/BAT54WT1-D.PDF; ComponentLink3Description: Package Specification; ComponentLink3URL: http://www.onsemi.com/pub_link/Collateral/419-04.PDF
footprint ONSC-SOT-323-3-419-04_V (SOT23, 3-Leads, Body 2x1.25mm, Pitch 0.65mm)
pins: 1 A, 2 NC, 3 K

## NSVMBD770DWT1G
designator D?
Schottky Barrier Diodes, 6-Pin SOT-363, Pb-Free, Tape and Reel; Manufacturer: On Semiconductor; PartNumber: NSVMBD770DWT1G; Note: 0; Configuration: Dual; IFSM Max (A): 1; DatasheetVersion: Rev. 1; PackageVersion: Rev. W, 01/2006; PackageReference: SOT-363-6-419B-02_W; PackageDescription: 6-Pin Small Outline Transistor, Body 2 x 1.25 mm, Pitch 0.65 mm; Packing: Tape and Reel; RoHS: TRUE; Mounting Technology: Surface Mount; ComponentLink1Description: Manufacturer URL; ComponentLink1URL: http://www.onsemi.com/; ComponentLink2Description: Datasheet; ComponentLink2URL: http://www.onsemi.cn/pub_link/Collateral/MBD770DW-D.PDF; ComponentLink3Description: Package Specification; ComponentLink3URL: http://www.onsemi.com/pub_link/Collateral/NTJD4001N-D.PDF
footprint ONSC-SOT-363-6-419B-02_W_V (SOT23, 6-Leads, Body 2x1.25mm, Pitch 0.65mm)
part A pins: 1 A2, 6 K2
part B pins: 3 K1, 4 A1
part C pins: 2 NC, 5 NC

## NSVMMBD352WT1G
designator D?
Dual Schottky Barrier Diodes, 3-Pin SOT-323, Pb-Free, Tape and Reel; Manufacturer: On Semiconductor; PartNumber: NSVMMBD352WT1G; DatasheetVersion: Rev. 5; PackageVersion: Rev. N, 11/2008; PackageReference: SOT-323-3-419-04; PackageDescription: 3-Pin Small Outline Transistor, Body 2 x 1.25 mm, Pitch 0.65 mm; Supplier 1: Digi-Key; Supplier Part Number 1: NSVMMBD352WT1G-ND; Supplier 2: Mouser; Supplier Part Number 2: 863-NSVMMBD352WT1G; Configuration: Dual; Packing: Tape and Reel; RoHS: TRUE; Mounting Technology: Surface Mount; ComponentLink1Description: Manufacturer URL; ComponentLink1URL: http://www.onsemi.com/; ComponentLink2Description: Datasheet; ComponentLink2URL: http://www.onsemi.cn/pub_link/Collateral/MMBD352WT1-D.PDF; ComponentLink3Description: Package Specification; ComponentLink3URL: http://www.onsemi.com/pub_link/Collateral/419-04.PDF
footprint ONSC-SOT-323-3-419-04_V (SOT23, 3-Leads, Body 2x1.25mm, Pitch 0.65mm)
pins: 1 A, 2 K, 3 K/A

## NSVMMBD353LT1G
designator D?
Dual Hot Carrier Mixer Diodes, 3-Pin SOT-23, Pb-Free, Tape and Reel; Manufacturer: On Semiconductor; PartNumber: NSVMMBD353LT1G; DatasheetVersion: Rev. 8; PackageVersion: Rev. AP, 11/2009; PackageReference: SOT-23-3-318-08; PackageDescription: 3-Pin Small Outline Transistor, Body 2.92 x 1.3 mm, Pitch 0.95 mm; Supplier 1: Digi-Key; Supplier Part Number 1: NSVMMBD353LT1G-ND; Supplier 2: Mouser; Supplier Part Number 2: 863-NSVMMBD353LT1G; Configuration: Dual; Packing: Tape and Reel; RoHS: TRUE; Mounting Technology: Surface Mount; ComponentLink1Description: Manufacturer URL; ComponentLink1URL: http://www.onsemi.com/; ComponentLink2Description: Datasheet; ComponentLink2URL: http://www.onsemi.cn/pub_link/Collateral/MMBD352LT1-D.PDF; ComponentLink3Description: Package Specification; ComponentLink3URL: http://www.onsemi.cn/pub_link/Collateral/318-08.PDF
footprint ONSC-SOT-23-3-318-08_V (SOT23, 3-Leads, Body 2.92x1.3mm, Pitch 0.95mm)
pins: 1 K, 2 A, 3 K/A

## NSVMMBD354LT1G
designator D?
Dual Hot Carrier Mixer Diodes, 3-Pin SOT-23, Pb-Free, Tape and Reel; Manufacturer: On Semiconductor; PartNumber: NSVMMBD354LT1G; Configuration: Common Cathode; DatasheetVersion: Rev. 8; PackageVersion: Rev. AP, 11/2009; PackageReference: SOT-23-3-318-08; PackageDescription: 3-Pin Small Outline Transistor, Body 2.92 x 1.3 mm, Pitch 0.95 mm; Supplier 1: Digi-Key; Supplier Part Number 1: NSVMMBD354LT1G-ND; Supplier 2: Mouser; Supplier Part Number 2: 863-NSVMMBD354LT1G; Packing: Tape and Reel; RoHS: TRUE; Mounting Technology: Surface Mount; ComponentLink1Description: Manufacturer URL; ComponentLink1URL: http://www.onsemi.com/; ComponentLink2Description: Datasheet; ComponentLink2URL: http://www.onsemi.cn/pub_link/Collateral/MMBD352LT1-D.PDF; ComponentLink3Description: Package Specification; ComponentLink3URL: http://www.onsemi.cn/pub_link/Collateral/318-08.PDF
footprint ONSC-SOT-23-3-318-08_V (SOT23, 3-Leads, Body 2.92x1.3mm, Pitch 0.95mm)
pins: 1 A1, 2 A2, 3 K

## NSVR0230M2T5G
designator D?
Schottky Barrier Diode, 2-Pin SOD-723, Pb-Free, Tape and Reel; Manufacturer: On Semiconductor; PartNumber: NSVR0230M2T5G; Configuration: Single; IFSM Max (A): 1; DatasheetVersion: Rev. 3; PackageVersion: Rev. O, 03/2005; PackageReference: SOD-723-2-509AA-01; PackageDescription: 2-Pin SOD, Body 1 x 0.6 mm; Supplier 1: Digi-Key; Supplier Part Number 1: NSVR0230M2T5G-ND; Supplier 2: Newark; Supplier Part Number 2: 76T6719; Supplier 3: Mouser; Supplier Part Number 3: 863-NSVR0230M2T5G; Packing: Tape and Reel; RoHS: TRUE; Mounting Technology: Surface Mount; ComponentLink1Description: Manufacturer URL; ComponentLink1URL: http://www.onsemi.com/; ComponentLink2Description: Datasheet; ComponentLink2URL: http://www.onsemi.cn/pub_link/Collateral/NSR0230-D.PDF; ComponentLink3Description: Package Specification; ComponentLink3URL: http://www.onsemi.com/pub_link/Collateral/509AA.PDF
footprint ONSC-SOD-723-2-509AA-01_V (SOD, 2-Leads, Body 1x0.6mm)
pins: 1 K, 2 A

## NSVR0240V2T1G
designator D?
Schottky Barrier Diode, 2-Pin SOD-523, Pb-Free, Tape and Reel; Manufacturer: On Semiconductor; PartNumber: NSVR0240V2T1G; Configuration: Single; IFSM Max (A): 2; DatasheetVersion: Rev. 2; PackageVersion: Rev. E, 09/2010; PackageReference: SOD-523-2-502-01; PackageDescription: 2-Pin SOD, Body 1.2 x 0.8 mm; Supplier 1: Digi-Key; Supplier Part Number 1: NSVR0240V2T1G-ND; Supplier 2: Mouser; Supplier Part Number 2: 863-NSVR0240V2T1G; Packing: Tape and Reel; RoHS: TRUE; Mounting Technology: Surface Mount; ComponentLink1Description: Manufacturer URL; ComponentLink1URL: http://www.onsemi.com/; ComponentLink2Description: Datasheet; ComponentLink2URL: http://www.onsemi.cn/pub_link/Collateral/NSR0240V2T1-D.PDF; ComponentLink3Description: Package Specification; ComponentLink3URL: http://www.onsemi.com/pub_link/Collateral/502-01.PDF
footprint ONSC-SOD-523-2-502-01_V (SOD, 2-Leads, Body 1.2x0.8mm)
pins: 1 K, 2 A

## NSVR0320MW2T1G
designator D?
Schottky Barrier Diode, 2-Pin SOD-323, Pb-Free, Tape and Reel; Manufacturer: On Semiconductor; PartNumber: NSVR0320MW2T1G; Configuration: Single; IFSM Max (A): 5; DatasheetVersion: Rev. 4; PackageVersion: Rev. H, 03/2007; PackageReference: SOD-323-2-477-02; PackageDescription: 2-Pin SOD, Body 1.7 x 1.25 mm; Supplier 1: Digi-Key; Supplier Part Number 1: NSVR0320MW2T1G-ND; Supplier 2: Newark; Supplier Part Number 2: 76T6721; Supplier 3: Mouser; Supplier Part Number 3: 863-NSVR0320MW2T1G; Packing: Tape and Reel; RoHS: TRUE; Mounting Technology: Surface Mount; ComponentLink1Description: Manufacturer URL; ComponentLink1URL: http://www.onsemi.com/; ComponentLink2Description: Datasheet; ComponentLink2URL: http://www.onsemi.cn/pub_link/Collateral/NSR0320MW2T1-D.PDF; ComponentLink3Description: Package Specification; ComponentLink3URL: http://www.onsemi.com/pub_link/Collateral/477-02.PDF.1
footprint ONSC-SOD-323-2-477-02_V (SOD, 2-Leads, Body 1.7x1.25mm)
pins: 1 K, 2 A

## NSVRB521S30T1G
designator D?
Schottky Barrier Diode, 2-Pin SOD-523, Pb-Free, Tape and Reel; Manufacturer: On Semiconductor; PartNumber: NSVRB521S30T1G; Configuration: Single; IFSM Max (A): 1; DatasheetVersion: Rev. 8; PackageVersion: Rev. E, 09/2010; PackageReference: SOD-523-2-502-01; PackageDescription: 2-Pin SOD, Body 1.2 x 0.8 mm; Supplier 1: Digi-Key; Supplier Part Number 1: NSVRB521S30T1G-ND; Supplier 2: Mouser; Supplier Part Number 2: 863-NSVRB521S30T1G; Packing: Tape and Reel; RoHS: TRUE; Mounting Technology: Surface Mount; ComponentLink1Description: Manufacturer URL; ComponentLink1URL: http://www.onsemi.com/; ComponentLink2Description: Datasheet; ComponentLink2URL: http://www.onsemi.cn/pub_link/Collateral/RB521S30T1-D.PDF; ComponentLink3Description: Package Specification; ComponentLink3URL: http://www.onsemi.com/pub_link/Collateral/502-01.PDF
footprint ONSC-SOD-523-2-502-01_V (SOD, 2-Leads, Body 1.2x0.8mm)
pins: 1 K, 2 A

## NTS8100MFST1G
designator D?
Very Low Forward Voltage Trench-Based Schottky Rectifier, 5-Pin DFN, Pb-Free, Tape and Reel; Manufacturer: On Semiconductor; PartNumber: NTS8100MFST1G; Note: 0; IFSM Max (A): 150; DatasheetVersion: Rev. 0; PackageVersion: Rev. G, 04/2012; PackageReference: DFN-5-488AA_G; PackageDescription: 5-Pin Small Outline No-Lead, Body 4.9 x 5.8 mm, Pitch 1.27 mm; Packing: Tape and Reel; RoHS: TRUE; Mounting Technology: Surface Mount; ComponentLink1Description: Manufacturer URL; ComponentLink1URL: http://www.onsemi.com/; ComponentLink2Description: Datasheet; ComponentLink2URL: http://www.onsemi.cn/pub_link/Collateral/NTS8100MFS-D.PDF; ComponentLink3Description: Package Specification; ComponentLink3URL: http://www.onsemi.com/pub_link/Collateral/MBR5H100MFS-D.PDF
footprint ONSC-DFN-5-488AA_G_V (DFN, 5-Leads, Body 4.9x5.8mm)
pins: 1 A, 2 A, 3 A, 4 NC, 5 K
text: 1, 2, 3

## NTS8100MFST3G
designator D?
Very Low Forward Voltage Trench-Based Schottky Rectifier, 5-Pin DFN, Pb-Free, Tape and Reel; Manufacturer: On Semiconductor; PartNumber: NTS8100MFST3G; Note: 0; IFSM Max (A): 150; DatasheetVersion: Rev. 0; PackageVersion: Rev. G, 04/2012; PackageReference: DFN-5-488AA_G; PackageDescription: 5-Pin Small Outline No-Lead, Body 4.9 x 5.8 mm, Pitch 1.27 mm; Packing: Tape and Reel; RoHS: TRUE; Mounting Technology: Surface Mount; ComponentLink1Description: Manufacturer URL; ComponentLink1URL: http://www.onsemi.com/; ComponentLink2Description: Datasheet; ComponentLink2URL: http://www.onsemi.cn/pub_link/Collateral/NTS8100MFS-D.PDF; ComponentLink3Description: Package Specification; ComponentLink3URL: http://www.onsemi.com/pub_link/Collateral/MBR5H100MFS-D.PDF
footprint ONSC-DFN-5-488AA_G_V (DFN, 5-Leads, Body 4.9x5.8mm)
pins: 1 A, 2 A, 3 A, 4 NC, 5 K
text: 1, 2, 3

## NTSB20U100CT-1G
designator D?
Very Low Forward Voltage Trench-Based Schottky Rectifier, Exceptionally Low VF=0.5 V at IF=5 A, 3-Pin I2PAK, Pb-Free, Tube; Manufacturer: On Semiconductor; PartNumber: NTSB20U100CT-1G; Configuration: Common Cathode; IFSM Max (A): 150; DatasheetVersion: Rev. 5; PackageVersion: Rev. D, 10/2007; PackageReference: I2PAK-3-418D-01; PackageDescription: 3-Pin Flange Mount, Vertical Straight Lead, Body 9.98 x 4.38 mm, Pitch 2.54 mm; Supplier 1: Digi-Key; Supplier Part Number 1: NTSB20U100CT-1G-ND; Supplier 2: Newark; Supplier Part Number 2: 76T6759; Supplier 3: Mouser; Supplier Part Number 3: 863-NTSB20U100CT-1G; Packing: Tube; RoHS: TRUE; Mounting Technology: Through Hole; ComponentLink1Description: Manufacturer URL; ComponentLink1URL: http://www.onsemi.com/; ComponentLink2Description: Datasheet; ComponentLink2URL: http://www.onsemi.cn/pub_link/Collateral/NTST20U100CT-D.PDF; ComponentLink3Description: Package Specification; ComponentLink3URL: http://www.onsemi.com/pub_link/Collateral/418D.PDF
footprint ONSC-I2PAK-3-418D-01 (FM, 3-Leads, Body 10.35x4.7mm, Pitch 2.54mm)
pins: 1 A1, 2 K, 3 A2

## NTSB20U100CTG
designator D?
Very Low Forward Voltage Trench-Based Schottky Rectifier, Exceptionally Low VF=0.5 V at IF=5 A, 3-Pin D2PAK, Pb-Free, Tube; Manufacturer: On Semiconductor; PartNumber: NTSB20U100CTG; Note: 0; Configuration: Common Cathode; IFSM Max (A): 150; DatasheetVersion: Rev. 5; PackageVersion: Rev. K, 09/2008; PackageReference: D2PAK-3-418B-04; PackageDescription: 3-Pin Flange Mount, Body 9.145 x 9.97 mm, Pitch 2.54 mm; Packing: Tube; RoHS: TRUE; Mounting Technology: Surface Mount; ComponentLink1Description: Manufacturer URL; ComponentLink1URL: http://www.onsemi.com/; ComponentLink2Description: Datasheet; ComponentLink2URL: http://www.onsemi.cn/pub_link/Collateral/NTST20U100CT-D.PDF; ComponentLink3Description: Package Specification; ComponentLink3URL: http://www.onsemi.com/pub_link/Collateral/418B-04.PDF
footprint ONSC-D2PAK-3-418B-04_V (DPAK, 3-Leads, Body 9.97x9.145mm, Pitch 2.54mm)
pins: 1 A1, 3 A2, 4 K

## NTSB20U100CTT4G
designator D?
Very Low Forward Voltage Trench-Based Schottky Rectifier, Exceptionally Low VF=0.5 V at IF=5 A, 3-Pin D2PAK, Pb-Free, Tape and Reel; Manufacturer: On Semiconductor; PartNumber: NTSB20U100CTT4G; Note: 0; Configuration: Common Cathode; IFSM Max (A): 150; DatasheetVersion: Rev. 5; PackageVersion: Rev. K, 09/2008; PackageReference: D2PAK-3-418B-04; PackageDescription: 3-Pin Flange Mount, Body 9.145 x 9.97 mm, Pitch 2.54 mm; Packing: Tape and Reel; RoHS: TRUE; Mounting Technology: Surface Mount; ComponentLink1Description: Manufacturer URL; ComponentLink1URL: http://www.onsemi.com/; ComponentLink2Description: Datasheet; ComponentLink2URL: http://www.onsemi.cn/pub_link/Collateral/NTST20U100CT-D.PDF; ComponentLink3Description: Package Specification; ComponentLink3URL: http://www.onsemi.com/pub_link/Collateral/418B-04.PDF
footprint ONSC-D2PAK-3-418B-04_V (DPAK, 3-Leads, Body 9.97x9.145mm, Pitch 2.54mm)
pins: 1 A1, 3 A2, 4 K

## NTSB30U100CT-1G
designator D?
Very Low Forward Voltage Trench-Based Schottky Rectifier, Exceptionally Low VF=0.42 V at IF=5 A, 3-Pin I2PAK, Pb-Free, Tube; Manufacturer: On Semiconductor; PartNumber: NTSB30U100CT-1G; Configuration: Common Cathode; IFSM Max (A): 160; DatasheetVersion: Rev. 7; PackageVersion: Rev. D, 10/2007; PackageReference: I2PAK-3-418D-01; PackageDescription: 3-Pin Flange Mount, Vertical Straight Lead, Body 9.98 x 4.38 mm, Pitch 2.54 mm; Supplier 1: Digi-Key; Supplier Part Number 1: NTSB30U100CT-1G-ND; Supplier 2: Newark; Supplier Part Number 2: 76T6760; Supplier 3: Mouser; Supplier Part Number 3: 863-NTSB30U100CT-1G; Packing: Tube; RoHS: TRUE; Mounting Technology: Through Hole; ComponentLink1Description: Manufacturer URL; ComponentLink1URL: http://www.onsemi.com/; ComponentLink2Description: Datasheet; ComponentLink2URL: http://www.onsemi.cn/pub_link/Collateral/NTST30U100CT-D.PDF; ComponentLink3Description: Package Specification; ComponentLink3URL: http://www.onsemi.com/pub_link/Collateral/418D.PDF
footprint ONSC-I2PAK-3-418D-01 (FM, 3-Leads, Body 10.35x4.7mm, Pitch 2.54mm)
pins: 1 A1, 2 K, 3 A2